# Altium schematic symbol library LIS2DW12.SchLib: 1 symbol
Pins are listed as number, name and electrical type; pins without a type are passive.

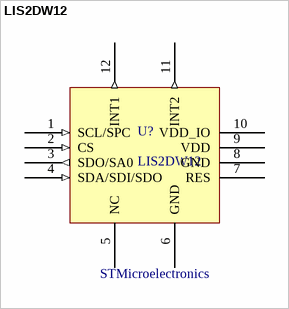
[diagram p0: symbol LIS2DW12]

## LIS2DW12
designator U?  Mfr 1: STMicroelectronics
Digital output motion sensor 3-axis
footprint LGA12C50P4X4_200X200X70 (LGA, 12-Leads, Body 2,00x2,00mmx0,70mm, Pitch 0,50mm)
pins: 1 SCL/SPC (in), 2 CS (in), 3 SDO/SA0 (out), 4 SDA/SDI/SDO (in), 5 NC, 6 GND (power), 7 RES, 8 GND (power), 9 VDD (power), 10 VDD_IO (power), 11 INT2 (out), 12 INT1 (out)